# Altium footprint library 6-440054-2.PcbLib: 1 footprints
Each footprint in its own frame and in the unit in brackets; x right, y up, seen from the top. Pads: shape width x height; smd on the part's side, far side on the other; paste and mask are expansions set on the pad; w line width, h text height; cw(c..) or ccw(c..) is an arc to the next point about the centre after c.
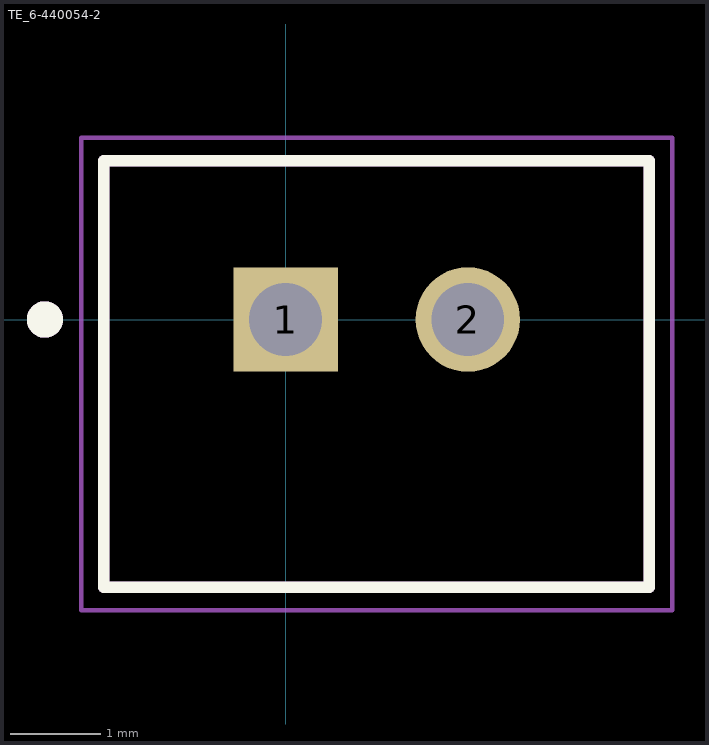
[diagram p0: the footprint, top view; thin cyan lines are the x and y axes]

## TE_6-440054-2 [mm]
pads (2):
  rect 1.15x1.15 hole 0.8: 1(0,0)
  round 1.15 hole 0.8: 2(2.007,0)
Top Overlay:
  circle w0.2: c-2.65,0 r0.1
  lines w0.127: -2,-2.95 4.007,-2.95 4.007,1.75 -2,1.75 -2,-2.95
Mechanical 13:
  circle w0.2: c-2.65,0 r0.1
  lines w0.127: -2,-2.95 4.007,-2.95 ; -2,-2.95 4.007,-2.95 ; -2,-2.95 -2,1.75 4.007,1.75 4.007,-2.95
Mechanical 15:
  lines w0.05: -2.25,-3.2 4.257,-3.2 4.257,2 -2.25,2 -2.25,-3.2
3D body "6-440054-2.stp": height 6.06, standoff -3.39, extent -1.984,-2.921 4.016,1.779